# EAGLE library part 1825006-5 (library Switches)
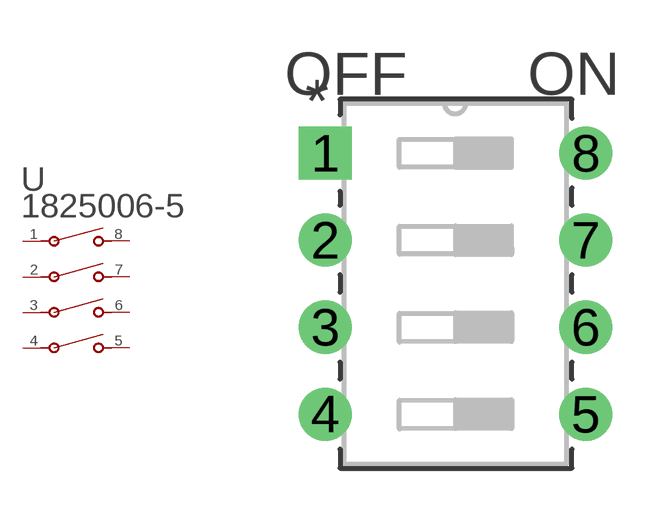
[diagram p23: symbol with the pads of SWDIP8_299X110P100; footprint SWDIP8_299X110P100]

Designator prefix U

## 1825006-5 (BUILT_BY: EMA_UL_Team; CATEGORY: DIP & SIP Switches; COPYRIGHT: Copyright (C) 2016 Accelerated Designs. All rights reserved; DESCRIPTION: GDS0404=DIP SW,SLIDE,THRU/HL; MANUFACTURER_PART_NUMBER: 1825006-5; PART_STATUS: active; SERIES: Alcoswitch DIP,Alcoswitch DIP GDS; VENDOR: TE Connectivity)  [SWDIP8_299X110P100]
1  1  pas
2  2  pas
3  3  pas
4  4  pas
5  5  pas
6  6  pas
7  7  pas
8  8  pas

## Footprint SWDIP8_299X110P100 (pad centres in mm)
drill 0.838 pad 1.549 square: 1 -7.595,7.62
drill 0.838 pad 1.549: 2 -7.595,5.08; 3 -7.595,2.54; 4 -7.595,0; 5 0,0; 6 0,2.54; 7 0,5.08; 8 0,7.62